# Altium schematic symbol library 0.10 - 滤波器.SchLib: 1 symbol
Pins are listed as number, name and electrical type; pins without a type are passive.

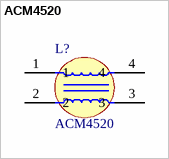
[diagram p0: symbol ACM4520]

## ACM4520
designator L?
贴片滤波器; Manufacturer: TDK; Symbol: ACM4520-901-2P-t000; Add into BOM: yes; Number of Lines: 2; Withstanding Voltage: 1kV; Current Rating: 2.3A; Voltage Rating - DC: 50V; Impedance @ Frequency: 900Ω@100MHz; DC Resistance (DCR): 60mΩ; Device: ACM4520-901-2P-t000; LCSC Part Name: 两路 贴片共模滤波器 阻抗900Ω@100MHz; Supplier Part: C41519; Manufacturer Part: ACM4520-901-2P-t000; Supplier Footprint: SMD,4.7x4.5x2mm; JLCPCB Part Class: 扩展库; Datasheet: https://atta.szlcsc.com/upload/public/pdf/source/20170211/1486806281821.pdf; Supplier: LCSC; Convert to PCB: yes; Operating Temperature: -40℃~+85℃
footprint FILTER-SMD_4P-L4.7-W4.5-BL
pins: 1, 2, 3, 4